# EAGLE library part HM-MOD-EM-8BIT (library homematic)
HM-MOD-EM-8Bit Technische Daten: Spannungsversorgung 3,5V-12V oder 2-3,3V Stromaufnahme max. 28mA (Senden) Ruhestromverbrauch max. 30µA (2-3,3V) / 60µA (3,5-12V) Anzahl der Kanäle 2 x Taster (Kanal 1 und 2), 1 x Daten (Kanal 3)
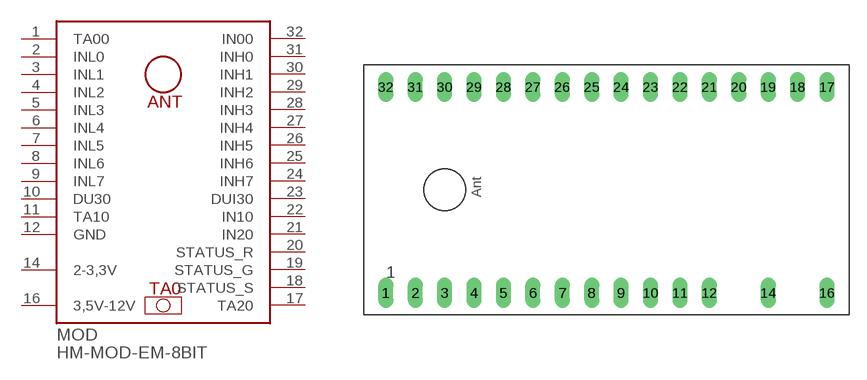
[diagram p0: symbol with the pads of HM-MOD; footprint HM-MOD]

Designator prefix MOD

## HM-MOD-EM-8BIT  [HM-MOD]
1  TA00  in
2  INL0  in
3  INL1  in
4  INL2  in
5  INL3  in
6  INL4  in
7  INL5  in
8  INL6  in
9  INL7  in
10  DU30  in
11  TA10  in
12  GND  pwr
14  2-3,3V  pwr
16  3,5V-12V  pwr
17  TA20  in
18  STATUS_S  out
19  STATUS_G  out
20  STATUS_R  out
21  IN20  in
22  IN10  in
23  DUI30  in
24  INH7  in
25  INH6  in
26  INH5  in
27  INH4  in
28  INH3  in
29  INH2  in
30  INH1  in
31  INH0  in
32  IN00  in

## Footprint HM-MOD (pad centres in mm)
HM-MOD Footprint für folgende Homematic-Module: HM-MOD-EM-8Bit HM-MOD-EM-8 HM-MOD-Re-8
drill 0.8 long: 1 -19.05,-8.89; 2 -16.51,-8.89; 3 -13.97,-8.89; 4 -11.43,-8.89; 5 -8.89,-8.89; 6 -6.35,-8.89; 7 -3.81,-8.89; 8 -1.27,-8.89; 9 1.27,-8.89; 10 3.81,-8.89; 11 6.35,-8.89; 12 8.89,-8.89; 14 13.97,-8.89; 16 19.05,-8.89; 17 19.05,8.89; 18 16.51,8.89; 19 13.97,8.89; 20 11.43,8.89; 21 8.89,8.89; 22 6.35,8.89; 23 3.81,8.89; 24 1.27,8.89; 25 -1.27,8.89; 26 -3.81,8.89; 27 -6.35,8.89; 28 -8.89,8.89; 29 -11.43,8.89; 30 -13.97,8.89; 31 -16.51,8.89; 32 -19.05,8.89